# EAGLE library part INA188IDR (library maholli)
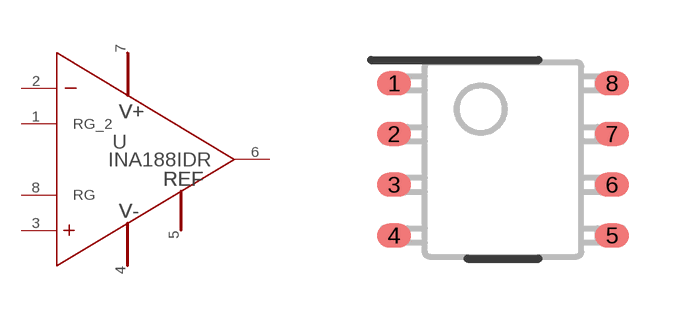
[diagram p6: symbol with the pads of D0008A_N; footprint D0008A_N]

Designator prefix U

## INA188IDR (ALTERNATEPARTNUMBER: INA188ID; APPLICATION_BUILDNUMBER: *; COMPTYPE: IC; MANUFACTURER: Texas Instruments; MOUNTTYPE: SMT; PACKAGEREFERENCE: D0008A; PARTNUMBER: INA188IDR; PIN_COUNT: 8; REFDES: RefDes; ROHS: Y; TYPE: TYPE; VALUE: Value)  [D0008A_N]
1  RG_2  pas
2  IN-  in
3  IN+  in
4  V-  pwr
5  REF  in
6  OUT  out
7  V+  pwr
8  RG  pas

## Footprint D0008A_N (pad centres in mm)
smd 0.85 x 0.6: 1 -2.725,1.905; 2 -2.725,0.635; 3 -2.725,-0.635; 4 -2.725,-1.905; 5 2.725,-1.905; 6 2.725,-0.635; 7 2.725,0.635; 8 2.725,1.905